# Altium footprint library PCB - POWER INDUCTORS - WURTH WE-HCI 1050.PcbLib: 1 footprints
Each footprint in its own frame and in the unit in brackets; x right, y up, seen from the top. Pads: shape width x height; smd on the part's side, far side on the other; paste and mask are expansions set on the pad; w line width, h text height; cw(c..) or ccw(c..) is an arc to the next point about the centre after c.
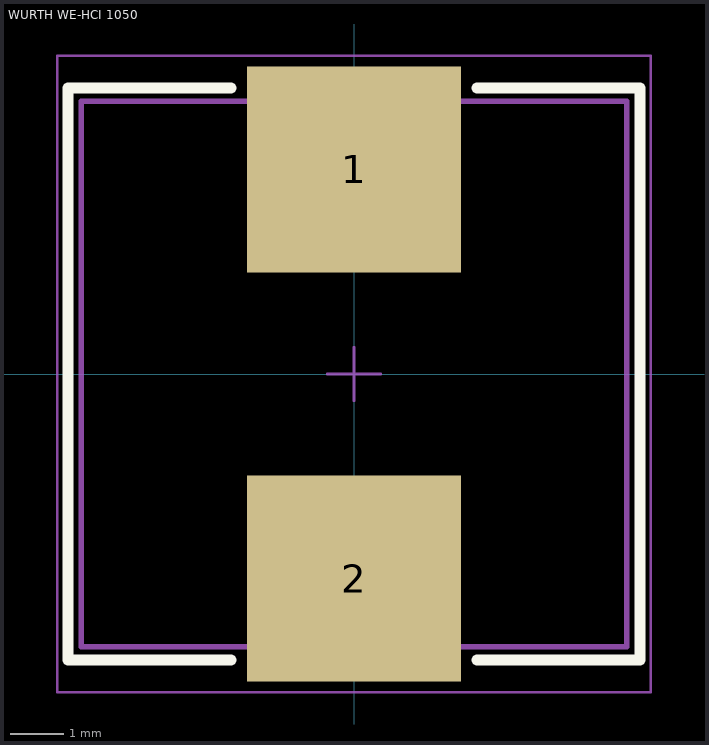
[diagram p0: the footprint, top view; thin cyan lines are the x and y axes]

## WURTH WE-HCI 1050 [mm] "SMT Flat Wire High Current Inductor, body 10.2x10.2mm"
height 4.7
pads (2):
  rect 4x3.85 smd: 1(0,3.825) 2(0,-3.825)
Top Overlay:
  lines w0.2: -2.3,-5.35 -5.35,-5.35 -5.35,5.35 -2.3,5.35 ; 2.3,-5.35 5.35,-5.35 5.35,5.35 2.3,5.35
Top Assembly:
  lines w0.1: -5.1,-5.1 -5.1,5.1 5.1,5.1 5.1,-5.1 -5.1,-5.1
Top Component Outline:
  lines w0.1: -5.1,-5.1 -5.1,5.1 5.1,5.1 5.1,-5.1 -5.1,-5.1
Top Courtyard:
  lines w0.05: -0.5,0 0.5,0 ; 0,-0.5 0,0.5 ; -5.55,-5.95 5.55,-5.95 5.55,5.95 -5.55,5.95 -5.55,-5.95
3D body "WE-HCI-1050_rev1.stp": height 5, standoff 0, extent -5.1,-5.5 5.1,5.5